# EAGLE library part 4RJ11-6L-B (library con-tycoelectronics)
CORCOM Modular RJ Jacks L - Ganged Series Source: www.tycoelectronics.com .. ENG_DS_1654001_1099_RJ_L_0507.pdf
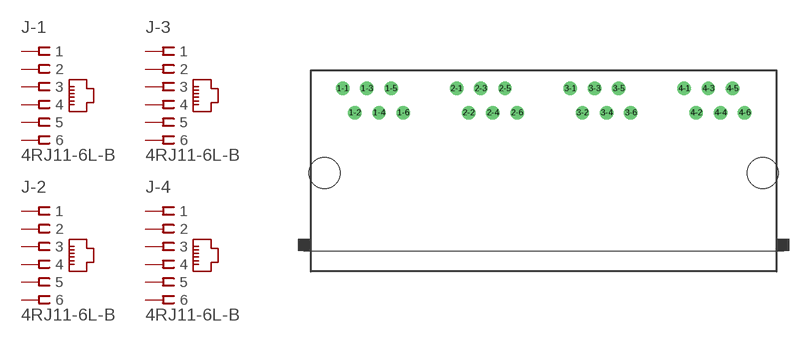
[diagram p2: symbol with the pads of 4RJ11; footprint 4RJ11]

Designator prefix J; gates -1=JACK6 -2=JACK6 -3=JACK6 -4=JACK6

## 4RJ11-6L-B (MF: TYCO ELECTRONICS; MPN: 4RJ11-6L-B; OC_FARNELL: unknown; OC_NEWARK: 48F3956)  [4RJ11]
1-1  -1:1  pas
1-2  -1:2  pas
1-3  -1:3  pas
1-4  -1:4  pas
1-5  -1:5  pas
1-6  -1:6  pas
2-1  -2:1  pas
2-2  -2:2  pas
2-3  -2:3  pas
2-4  -2:4  pas
2-5  -2:5  pas
2-6  -2:6  pas
3-1  -3:1  pas
3-2  -3:2  pas
3-3  -3:3  pas
3-4  -3:4  pas
3-5  -3:5  pas
3-6  -3:6  pas
4-1  -4:1  pas
4-2  -4:2  pas
4-3  -4:3  pas
4-4  -4:4  pas
4-5  -4:5  pas
4-6  -4:6  pas

## Footprint 4RJ11 (pad centres in mm)
RJ11 x 4 Source: www.tycoelectronics.com .. ENG_DS_1654001_1099_RJ_L_0507.pdf
drill 0.9 pad 1.4 round: 1-1 -21.082,8.89; 1-2 -19.812,6.35; 1-3 -18.542,8.89; 1-4 -17.272,6.35; 1-5 -16.002,8.89; 1-6 -14.732,6.35; 2-1 -9.144,8.89; 2-2 -7.874,6.35; 2-3 -6.604,8.89; 2-4 -5.334,6.35; 2-5 -4.064,8.89; 2-6 -2.794,6.35; 3-1 2.794,8.89; 3-2 4.064,6.35; 3-3 5.334,8.89; 3-4 6.604,6.35; 3-5 7.874,8.89; 3-6 9.144,6.35; 4-1 14.732,8.89; 4-2 16.002,6.35; 4-3 17.272,8.89; 4-4 18.542,6.35; 4-5 19.812,8.89; 4-6 21.082,6.35
hole 3.251 at -22.987,0
hole 3.251 at 22.987,0